# Altium schematic symbol library SCH - RF - AMPLIFIER - QORVO QPD1022.SCHLIB: 1 symbol
Pins are listed as number, name and electrical type; pins without a type are passive.

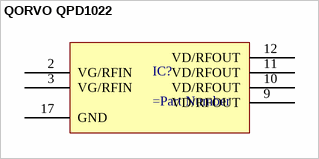
[diagram p0: symbol QORVO QPD1022]

## QORVO QPD1022
designator IC?
pins: 2 VG/RFIN, 3 VG/RFIN, 9 VD/RFOUT, 10 VD/RFOUT, 11 VD/RFOUT, 12 VD/RFOUT, 17 GND